# Altium integrated library ICM-20948.IntLib: 1 symbol
Pins are listed as number, name and electrical type; pins without a type are passive.

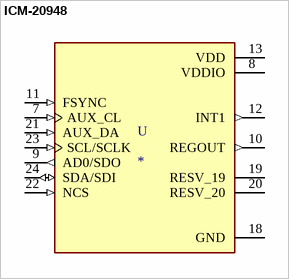
[diagram p0: symbol ICM-20948]

## ICM-20948
designator U
Accelerometer, Gyroscope, Magnetometer, 9 Axis Sensor IÂ²C, SPI Output; MP: ICM-20948; MF: TDK InvenSense; Package: TFQFN-24 TDK InvenSense; Availability: Unavailable; Value: *; SnapEDA_Link: https://www.snapeda.com/parts/ICM-20948/TDK%20InvenSense/view-part/4218863/?ref=snap; Price: None
footprint QFN40P300X300X105-24N
pins: 7 AUX_CL (in), 8 VDDIO (power), 9 AD0/SDO (out), 10 REGOUT (out), 11 FSYNC (in), 12 INT1 (out), 13 VDD (power), 18 GND (power), 19 RESV_19, 20 RESV_20, 21 AUX_DA (in), 22 NCS (in), 23 SCL/SCLK (in), 24 SDA/SDI (io)